# Altium footprint library Transciever.PcbLib: 2 footprints
Each footprint in its own frame and in the unit in brackets; x right, y up, seen from the top. Pads: shape width x height; smd on the part's side, far side on the other; paste and mask are expansions set on the pad; w line width, h text height; cw(c..) or ccw(c..) is an arc to the next point about the centre after c.
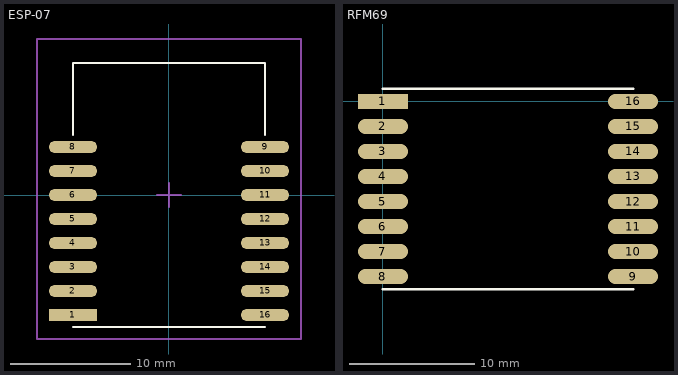
[diagram p0: the footprints below, top view; thin cyan lines are the x and y axes]

## ESP-07 [mm] "Посадочное место для WiFi модуля ESP-07"
height 3.55
pads (16):
  rect 4x1 smd: 1(-8,-10)
  oval 4x1 smd: 2(-8,-8) 3(-8,-6) 4(-8,-4) 5(-8,-2) 6(-8,0) 7(-8,2) 8(-8,4) 9(8,4) 10(8,2) 11(8,0) 12(8,-2) 13(8,-4) 14(8,-6) 15(8,-8) 16(8,-10)
Top Overlay:
  lines w0.2: -8,-11 8,-11 ; -8,5 -8,11 8,11 8,5
Mechanical 15:
  lines w0.2: -1,0 0,0 ; 0,-1 0,0 ; 0,1 0,0 ; 1,0 0,0 ; 0,0 0,0 ; -11,-12 -11,13 11,13 11,-12 -11,-12
3D body: height 1, standoff 0.1, extent -8,-11 8,11
3D body: height 3.55, standoff 1, extent -6,-10 6,5
3D body: height 1.5, standoff 1, extent -7,7 -4,10
3D body: height 2, standoff 1.5, extent -6.5,7.502 -4.508,9.498
3D body: height 1.5, standoff 0.8, extent -2,9 7,10

## RFM69 [mm]
height 1.9
pads (16):
  rect 4x1.2 smd: 1(0,0)
  oval 4x1.2 smd: 2(0,-2) 3(0,-4) 4(0,-6) 5(0,-8) 6(0,-10) 7(0,-12) 8(0,-14) 9(20,-14) 10(20,-12) 11(20,-10) 12(20,-8) 13(20,-6) 14(20,-4) 15(20,-2) 16(20,0)
Top Overlay:
  lines w0.2: 0,-15 20,-15 ; 0,1 20,1
3D body: height 1, standoff 0, extent 0,-15 20,1
3D body: height 1.9, standoff 1, extent 4,-13 9,-8
3D body: height 1.6, standoff 1, extent 8,-4 11,0